# EAGLE library part PIC12(L)F1822 (library .custom-active)
PIC12(L)F1822 Based on https://ww1.microchip.com/downloads/en/DeviceDoc/PIC12LF1822-16LF1823-Data-Sheet-40001413F.pdf
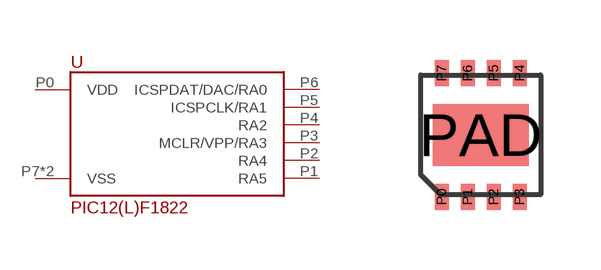
[diagram p0: symbol with the pads of VDFN-8; footprint VDFN-8]

Designator prefix U

## PIC12(L)F1822 (VALUE: PIC12LF1822)  [VDFN-8]
P0  VDD
P1  RA5
P2  RA4
P3  MCLR/VPP/RA3
P4  RA2
P5  ICSPCLK/RA1
P6  ICSPDAT/DAC/RA0
P7  VSS
PAD  VSS

## Footprint VDFN-8 (pad centres in mm)
8M1-A-MLF (VDFN) 6 x 5 mm Source: http://www.atmel.com/dyn/resources/prod_documents/doc3500.pdf
smd 0.35 x 0.65: P0 -0.975,-1.55; P1 -0.325,-1.55; P2 0.325,-1.55; P3 0.975,-1.55; P4 0.975,1.55; P5 0.325,1.55; P6 -0.325,1.55; P7 -0.975,1.55
smd 2.4 x 1.55: PAD 0,0